# Altium schematic symbol library OpAmp_LMP7702.Schlib: 1 symbol
Pins are listed as number, name and electrical type; pins without a type are passive.

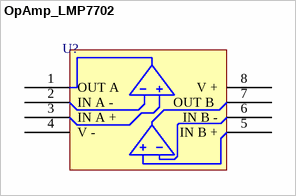
[diagram p0: symbol OpAmp_LMP7702]

## OpAmp_LMP7702
designator U?, comment LMP7702  (value not drawn)
footprint TSOP65P490X110-8N (TSOP, 8-Leads, Body 3.00x3.00mm, Pitch 0.65mm, IPC Medium Density)
pins: 1 OUT A, 2 IN A -, 3 IN A +, 4 V - , 5 IN B +, 6 IN B -, 7 OUT B , 8 V +